# Altium footprint library Sheet_1.PcbLib: 17 footprints (part 1 of 2)
Each footprint in its own frame and in the unit in brackets; x right, y up, seen from the top. Pads: shape width x height; smd on the part's side, far side on the other; paste and mask are expansions set on the pad; w line width, h text height; cw(c..) or ccw(c..) is an arc to the next point about the centre after c.
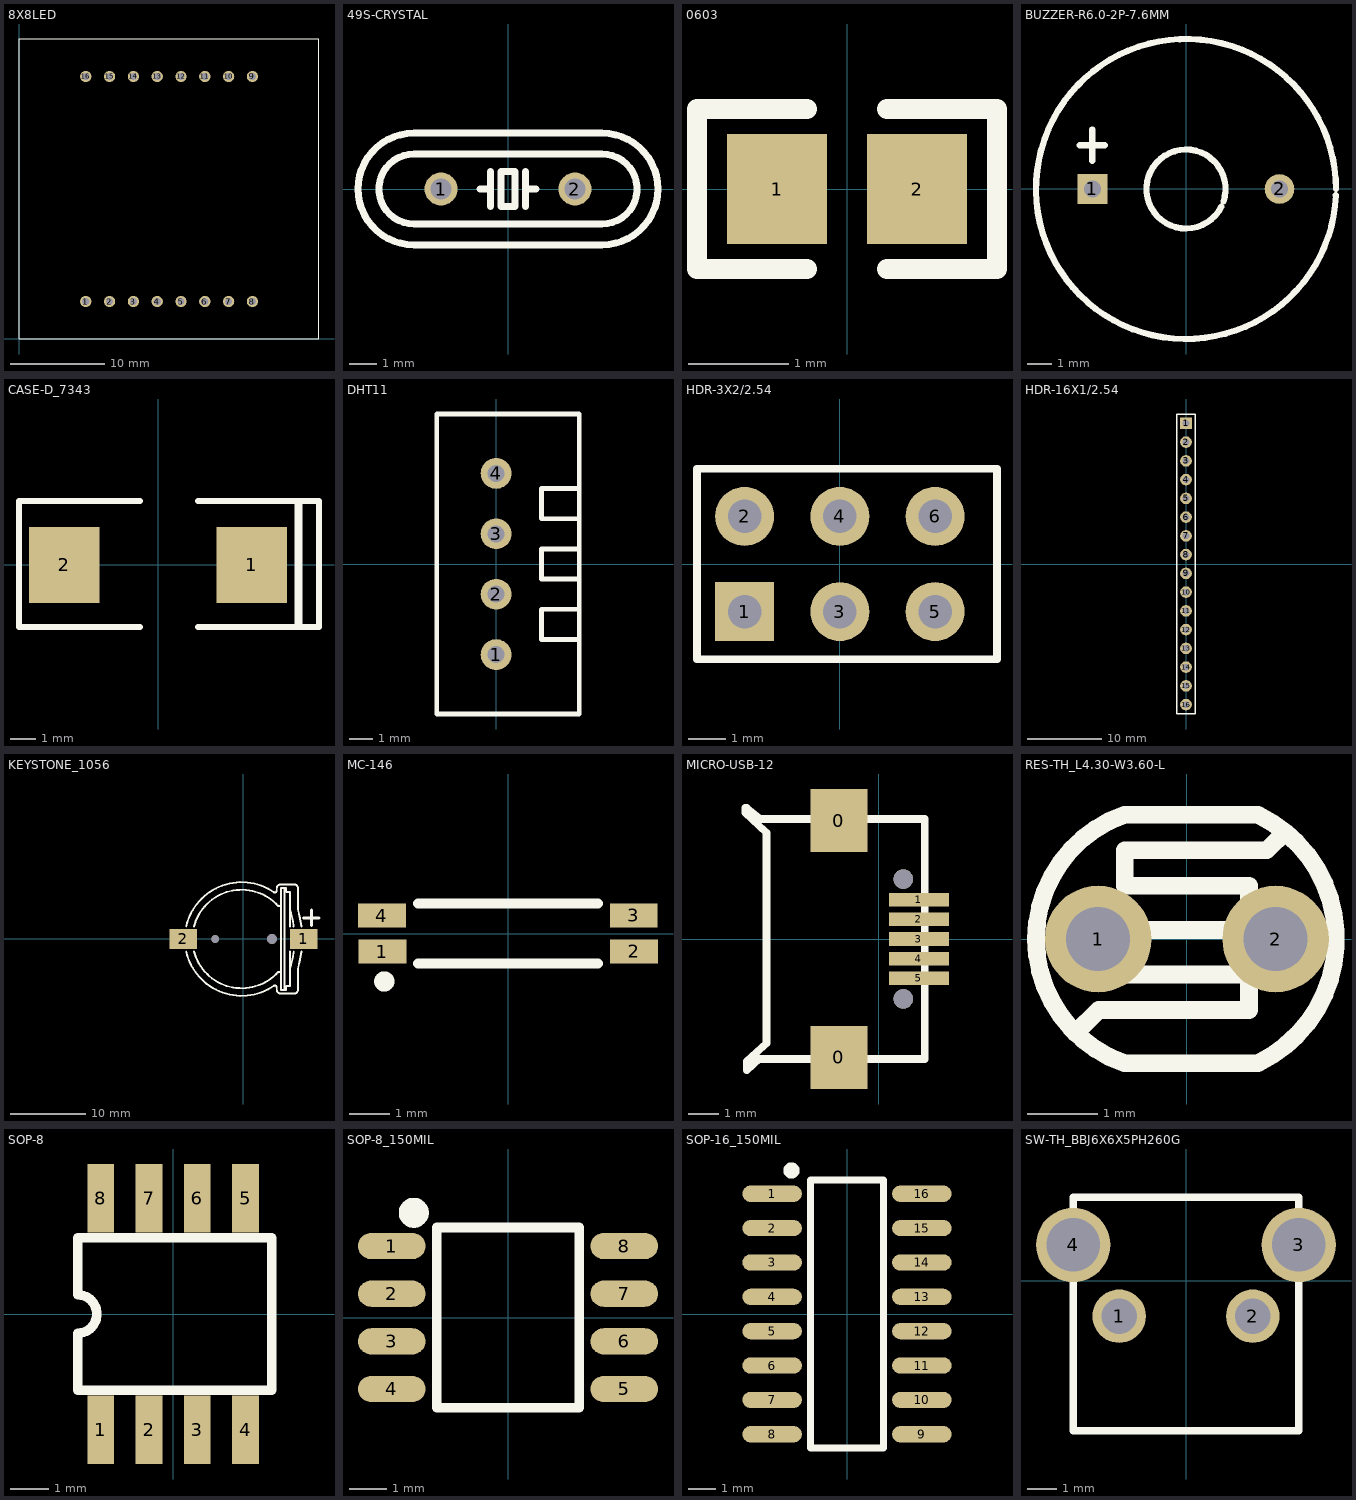
[diagram p0: the footprints below, top view; thin cyan lines are the x and y axes]

## 8X8LED [mm]
pads (16):
  round 1.2 hole 0.762: 1(7.12,4) 2(9.66,4) 3(12.2,4) 4(14.74,4) 5(17.28,4) 6(19.82,4) 7(22.36,4) 8(24.9,4) 9(24.9,28) 10(22.36,28) 11(19.82,28) 12(17.28,28) 13(14.74,28) 14(12.2,28) 15(9.66,28) 16(7.12,28)
Top Overlay:
  lines w0.1: 0,0 0,32 32,32 32,0 0,0

## 49S-CRYSTAL [mm]
pads (2):
  round 1.2 hole 0.75: 1(-2.438,0) 2(2.438,0)
Top Overlay:
  lines w0.254: -1.016,0 -0.635,0 ; -0.635,-0.635 -0.635,0 ; -0.635,0.635 -0.635,0 ; 0.635,-0.635 0.635,0 ; 0.635,0.635 0.635,0 ; 1.016,0 0.635,0 ; -5.109,-1.143 cw(c-3.429,0) -5.109,1.143 cw(c-3.429,0) -3.429,2.032 3.429,2.032 cw(c3.429,0) 5.109,1.143 cw(c3.429,0) 5.109,-1.143 cw(c3.429,0) 3.429,-2.032 -3.429,-2.032 cw(c-3.429,0) -5.109,-1.143 ; -3.983,-1.143 cw(c-3.429,0) -3.983,1.143 cw(c-3.429,0) -3.429,1.27 3.429,1.27 cw(c3.429,0) 3.983,1.143 cw(c3.429,0) 3.983,-1.143 cw(c3.429,0) 3.429,-1.27 -3.429,-1.27 cw(c-3.429,0) -3.983,-1.143 ; -0.254,-0.635 0.254,-0.635 0.254,0.635 -0.254,0.635 -0.254,-0.635

## 0603 [mm]
pads (2):
  rect 1x1.1 smd: 1(-0.7,0) 2(0.7,0)
Top Overlay:
  lines w0.2: -0.4,-0.8 -1.5,-0.8 -1.5,-0.2 -1.5,0.8 -0.4,0.8 ; 0.4,-0.8 1.5,-0.8 1.5,0.8 0.4,0.8

## BUZZER-R6.0-2P-7.6MM [mm]
pads (2):
  rect 1.2x1.2 hole 0.7: 1(-3.8,0)
  round 1.2 hole 0.7: 2(3.8,0)
Top Overlay:
  lines w0.254: -4.318,1.778 -3.302,1.778 ; -3.81,1.143 -3.81,2.413 ; 1.437,-0.718 cw(c0,0) 1.524,-0.508 ; 6.091,-0.254 cw(c0,0) 6.096,0

## CASE-D_7343 [mil]
pads (2):
  rect 110.2x118.5 smd: 1(146.5,0) 2(-146.5,0)
Top Overlay:
  lines w10: -31.5,100 -28.5,100 -217.5,100 -217.5,-97 -28.5,-97 ; 65.5,-97 62.5,-97 251.5,-97 251.5,100 62.5,100 ; -28.5,-97 -28.5,-97 ; 62.5,100 62.5,100
  lines w13: 219.5,-95 219.5,98

## DHT11 [mil]
pads (4):
  round 51 hole 28: 1(0,-150) 2(0,-50) 3(0,50) 4(0,150)
Top Overlay:
  lines w8: 136.2,-248.4 0,-248.4 -98.4,-248.4 -98.4,150 -98.4,248.4 0,248.4 136.2,248.4 ; 137.8,-248.4 137.8,150 137.8,248.4 ; 137.8,-125 75,-125 75,-75 137.8,-75 ; 137.8,-25 75,-25 75,25 137.8,25 ; 137.8,75 75,75 75,125 137.8,125

## HDR-3X2/2.54 [mil]
pads (6):
  rect 62x62 hole 35: 1(-100,-50)
  round 62 hole 35: 2(-100,50) 3(0,-50) 4(0,50) 5(100,-50) 6(100,50)
Top Overlay:
  lines w8: -150,-100 -150,100 165,100 165,-100 -150,-100

## HDR-16X1/2.54 [mil]
pads (16):
  rect 62x62 hole 35: 1(0,750)
  round 62 hole 35: 2(0,650) 3(0,550) 4(0,450) 5(0,350) 6(0,250) 7(0,150) 8(0,50) 9(0,-50) 10(0,-150) 11(0,-250) 12(0,-350) 13(0,-450) 14(0,-550) 15(0,-650) 16(0,-750)
Top Overlay:
  lines w7.99: 50,-800 50,725
  lines w8: 50,-800 -50,-800 -50,800 50,800 50,725

## KEYSTONE_1056 [mm]
pads (4):
  rect 3.6x2.6 smd: 1(7.961,0) 2(-7.961,0)
  round 1 hole 1 unplated: ""(-3.739,0)
  round 1.3 hole 1.3 unplated: ""(3.761,0)
Top Overlay:
  lines w0.254: -7.551,-1.65 ccw(c-0.229,-0.003) 4.016,-6.192 cw(c4.157,-6.398) 4.408,-6.398 4.408,-6.7 ccw(c4.916,-6.7) 4.916,-7.208 6.694,-7.208 ccw(c6.694,-6.7) 7.202,-6.7 7.202,-4.06 cw(c8.502,-4.06) 7.243,-3.735 ccw(c-10.902,0.937) 7.656,-1.65 ; -7.55,1.65 cw(c-0.229,-0.003) 4.016,6.186 ccw(c4.157,6.392) 4.408,6.392 4.408,6.694 cw(c4.916,6.694) 4.916,7.202 6.694,7.202 cw(c6.694,6.694) 7.202,6.694 7.202,4.053 ccw(c8.502,4.053) 7.243,3.729 cw(c-10.902,-0.944) 7.655,1.65 ; -6.52,-1.65 ccw(c-0.229,-0.003) 4.546,-4.419 cw(c4.729,-4.589) 4.979,-4.588 ; -6.519,1.65 cw(c-0.229,-0.003) 4.546,4.412 ccw(c4.729,4.582) 4.979,4.582 ; 5.439,-6.764 5.439,6.757 ; 6.172,-1.65 6.172,-4.045 ; 6.172,1.65 6.172,4.038 ; 6.644,1.65 ccw(c-10.902,-0.944) 6.217,3.698 cw(c7.472,4.038) 6.172,4.038 ; 6.646,-1.65 cw(c-10.902,0.937) 6.217,-3.704 ccw(c7.472,-4.045) 6.172,-4.045 ; 4.979,-4.588 4.979,4.582 ; 4.979,-4.588 4.979,-6.764 5.664,-6.764 5.664,-6.228 6.172,-6.228 6.172,-4.045 ; 4.979,4.582 4.979,6.757 5.664,6.757 5.664,6.221 6.172,6.221 6.172,4.038
  lines w0.405: 7.951,2.79 9.985,2.79 ; 8.972,1.771 8.972,3.809

## MC-146 [mm]
pads (4):
  rect 1.2x0.6 smd: 1(-3.148,-0.453) 2(3.158,-0.45) 3(3.151,0.453) 4(-3.158,0.447)
Top Overlay:
  circle w0.254: c-3.1,-1.2 r0.127
  lines w0.254: -2.25,-0.75 2.25,-0.75 ; -2.25,0.75 2.25,0.75

## MICRO-USB-12 [mm]
pads (9):
  rect 1.9x2.1 smd: 0(-1.335,-3.95) 0(-1.335,3.95)
  rect 2x0.45 smd: 1(1.335,1.3) 2(1.335,0.65) 3(1.335,0) 4(1.335,-0.65) 5(1.335,-1.3)
  round 0.65 hole 0.65 unplated: ""(0.814,-1.999) ""(0.814,1.999)
Top Overlay:
  lines w0.254: -3.987,-3.99 -4.406,-4.376 -4.406,-4.084 -3.745,-3.475 -3.745,3.54 -4.456,4.204 -4.456,4.369 -4.406,4.369 -3.987,4.011 ; -3.987,4 1.515,4 ; -3.976,-4 1.525,-4 1.525,4

## RES-TH_L4.30-W3.60-L [mil]
pads (2):
  round 60 hole 36: 1(-50,0) 2(50,0)
Top Overlay:
  lines w10: -62.7,-53 -49.7,-40 35,-40 35,-20 -35,-20 -35,5 35,5 35,30 -35,30 -35,50 45,50 55.4,60.2 ; -35,-70 cw(c-11,0) -35,70 40,70 cw(c6.31,0) 40,-70 -35,-70

## SOP-8 [mm]
pads (8):
  rect 0.701x1.8 smd: 1(-1.905,-3.048) 2(-0.635,-3.048) 3(0.635,-3.048) 4(1.905,-3.048) 5(1.905,3.048) 6(0.635,3.048) 7(-0.635,3.048) 8(-1.905,3.048)
Top Overlay:
  lines w0.254: -2.515,-2.008 -2.515,-0.508 ccw(c-2.515,0) -2.515,0.508 ; -2.515,0.507 -2.515,2.007 ; -2.509,-2.007 2.591,-2.007 ; -2.504,2.007 2.596,2.007 ; 2.596,-2.003 2.596,1.997

## SOP-8_150MIL [mm]
pads (8):
  oval 1.8x0.7 smd: 1(-3.099,1.905) 2(-3.099,0.635) 3(-3.099,-0.635) 4(-3.099,-1.905) 5(3.099,-1.905) 6(3.099,-0.635) 7(3.099,0.635) 8(3.099,1.905)
Top Overlay:
  lines w0.254: -1.905,-2.4 1.905,-2.4 1.905,2.4 1.4,2.4 -1.905,2.4 -1.905,-2.4
  lines w0.4: -2.311,2.791 cw(c-2.511,2.793) -2.311,2.794

## SOP-16_150MIL [mm]
pads (16):
  oval 2.2x0.6 smd: 1(-2.769,4.445) 2(-2.769,3.175) 3(-2.769,1.905) 4(-2.769,0.635) 5(-2.769,-0.635) 6(-2.769,-1.905) 7(-2.769,-3.175) 8(-2.769,-4.445) 9(2.769,-4.445) 10(2.769,-3.175) 11(2.769,-1.905) 12(2.769,-0.635) 13(2.769,0.635) 14(2.769,1.905) 15(2.769,3.175) 16(2.769,4.445)
Top Overlay:
  lines w0.254: -1.35,-4.95 -1.35,4.95 1.35,4.95 1.35,-4.95 -1.35,-4.95
  lines w0.3: -1.905,5.306 cw(c-2.055,5.307) -1.905,5.309

## SW-TH_BBJ6X6X5PH260G [mm]
pads (4):
  round 1.8 hole 1.2: 1(-2.25,-1.2) 2(2.25,-1.2)
  round 2.5 hole 1.8: 3(3.8,1.2) 4(-3.8,1.2)
Top Overlay:
  lines w0.254: -3.8,-5.05 -3.8,2.8 3.8,2.8 3.8,-5.05 -3.8,-5.05